# Altium schematic symbol library CRM0805AFX-R100ELF.SchLib: 1 symbol
Pins are listed as number, name and electrical type; pins without a type are passive.

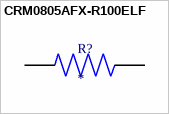
[diagram p0: symbol CRM0805AFX-R100ELF]

## CRM0805AFX-R100ELF
designator R?
MP: CRM0805AFX-R100ELF; Package: None; Price: None; Value: *; Availability: Unavailable
footprint RESC2012X60N
pins: 1, 2